# EAGLE library part LM5022 (library LM5022)
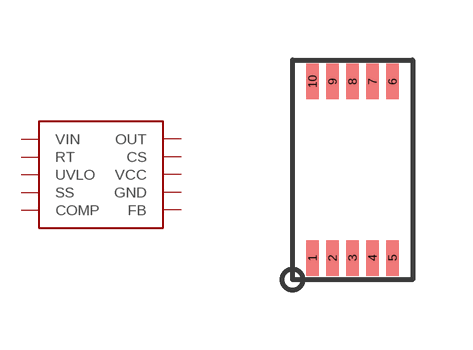
[diagram p0: symbol with the pads of MSOP-10-NOPAD; footprint MSOP-10-NOPAD]

Designator prefix U

## LM5022MSOP-10  [MSOP-10-NOPAD]
1  VIN
2  FB
3  COMP
4  VCC
5  OUT
6  GND
7  UVLO
8  CS
9  RT
10  SS

## Footprint MSOP-10-NOPAD (pad centres in mm)
smd 0.305 x 0.889: 1 -1,-2.209; 2 -0.5,-2.209; 3 0,-2.209; 4 0.5,-2.209; 5 1,-2.209; 6 1,2.209; 7 0.5,2.209; 8 0,2.209; 9 -0.5,2.209; 10 -1,2.209